# Altium footprint library Diode_On_Semiconductor_RB520S30T1G_eec_MFG.PcbLib: 1 footprints
Each footprint in its own frame and in the unit in brackets; x right, y up, seen from the top. Pads: shape width x height; smd on the part's side, far side on the other; paste and mask are expansions set on the pad; w line width, h text height; cw(c..) or ccw(c..) is an arc to the next point about the centre after c.
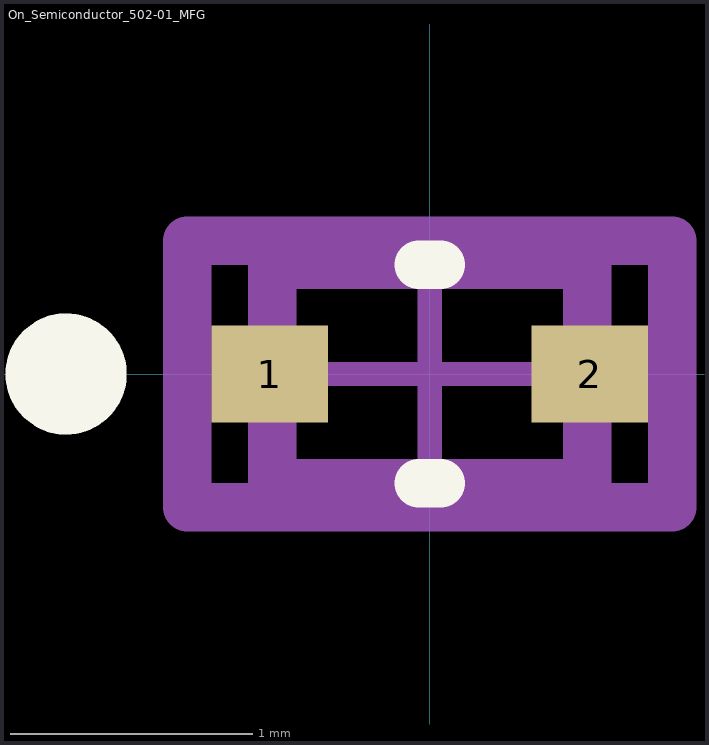
[diagram p0: the footprint, top view; thin cyan lines are the x and y axes]

## On_Semiconductor_502-01_MFG [mm]
pads (2):
  rect 0.48x0.4 smd paste+0 mask+0: 1(-0.66,0) 2(0.66,0)
Top Overlay:
  circle w0.25: c-1.5,0 r0.125
  lines w0.2: -0.045,-0.45 0.045,-0.45 ; -0.045,0.45 0.045,0.45
Mechanical 10:
  lines w0.2: -1,-0.55 1,-0.55 1,0.55 -1,0.55 -1,-0.55
  text ".Designator" at 0,0 h1
Mechanical 12:
  lines w0.2: -0.65,-0.45 0.65,-0.45 0.65,0.45 -0.65,0.45 -0.65,-0.45
Mechanical 15:
  lines w0.1: -0.5,0 0.5,0 ; 0,-0.5 0,0.5
  lines w0.2: -1,-0.55 1,-0.55 1,0.55 -1,0.55 -1,-0.55
3D body "Diode_On_Semiconductor_RB520S30T1G_eec.STEP": height 0.25, standoff 0, extent -1,-0.55 1,0.55